# EAGLE library part DM3CS-SF (library DM3CS-SF)
Conn Micro SD Card HDR 8 POS 1.1mm Solder RA SMD Embossed T/R 0.5A
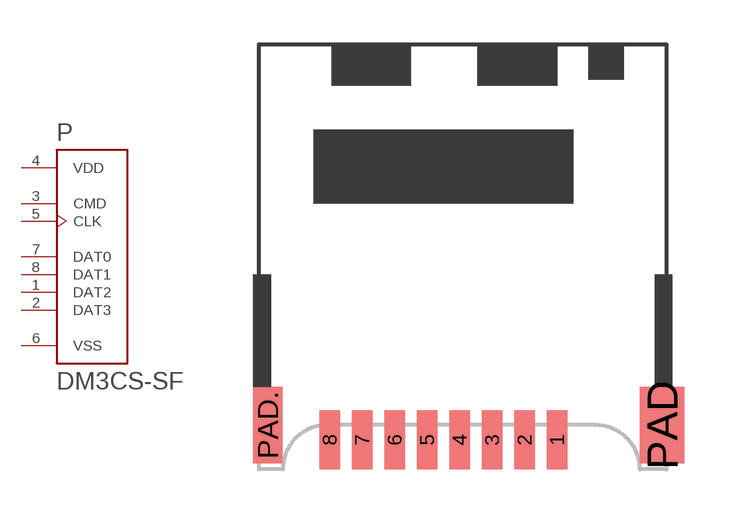
[diagram p0: symbol with the pads of HRS_DM3CS-SF; footprint HRS_DM3CS-SF]

Designator prefix P

## DM3CS-SF (Availability: Good; Description: Conn Micro SD Card HDR 8 POS 1.1mm Solder RA SMD Embossed T/R 0.5A; MF: Hirose; MP: DM3CS-SF; Package: None; Price: 1.06 USD)  [HRS_DM3CS-SF]
1  DAT2
2  DAT3
3  CMD  in
4  VDD  pwr
5  CLK  in
6  VSS  pas
7  DAT0
8  DAT1

## Footprint HRS_DM3CS-SF (pad centres in mm)
smd 0.7 x 2: 1 3.2,-6.2; 2 2.1,-6.2; 3 1,-6.2; 4 -0.1,-6.2; 5 -1.2,-6.2; 6 -2.3,-6.2; 7 -3.4,-6.2; 8 -4.5,-6.2
smd 1.5 x 2.6: PAD 6.75,-5.7
smd 1 x 2.6: PAD. -6.6,-5.7